# Altium schematic symbol library SD_Card.SchLib: 2 symbols
Pins are listed as number, name and electrical type; pins without a type are passive.

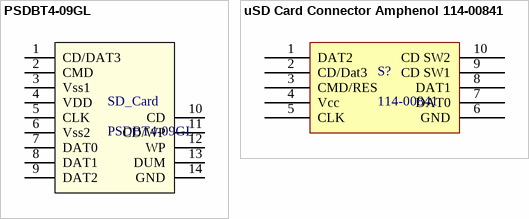
[diagram p0: symbols PSDBT4-09GL to uSD Card Connector Amphenol 114-00841]

## PSDBT4-09GL
designator SD_Card
SD Memory Card Slot; Part Number: PSDBT4-09GLXXX002X0; Manufacturer: TAI TWUN GROUP LTD.; Name: TD-SD PUSH PUSH Normal Type; Autor: ROUX, Federico G.; E-Mail: rouxfederico@gmail.com
footprint PSDBT4-09GLXXX002X0 (SD Memory Card Slot)
pins: 1 CD/DAT3, 2 CMD, 3 Vss1, 4 VDD, 5 CLK, 6 Vss2, 7 DAT0, 8 DAT1, 9 DAT2, 10 CD, 11 CD/WP, 12 WP, 13 DUM, 14 GND

## uSD Card Connector Amphenol 114-00841
designator S?, comment 114-00841
uSD Card Connector; Manufacturer: Amphenol Shoumin Industry; Part.NO: 114-00841-68; Auth.: ROUX, Federico G.; Mail: rouxfederico@hotmail.com; Company: NEROX SRL; Description: Micro SD None Push Connector Top Mount; Dat.: 25.10.2011; URL: www.amphenol.com
footprint Amphenol 114-00841-68 (Micro SD None Push Connector Top Mount)
pins: 1 DAT2, 2 CD/Dat3, 3 CMD/RES, 4 Vcc (power), 5 CLK, 6 GND (power), 7 DAT0, 8 DAT1, 9 CD SW1, 10 CD SW2